# Altium schematic symbol library ZYF_IC.SchLib: 43 symbols
Pins are listed as number, name and electrical type; pins without a type are passive.

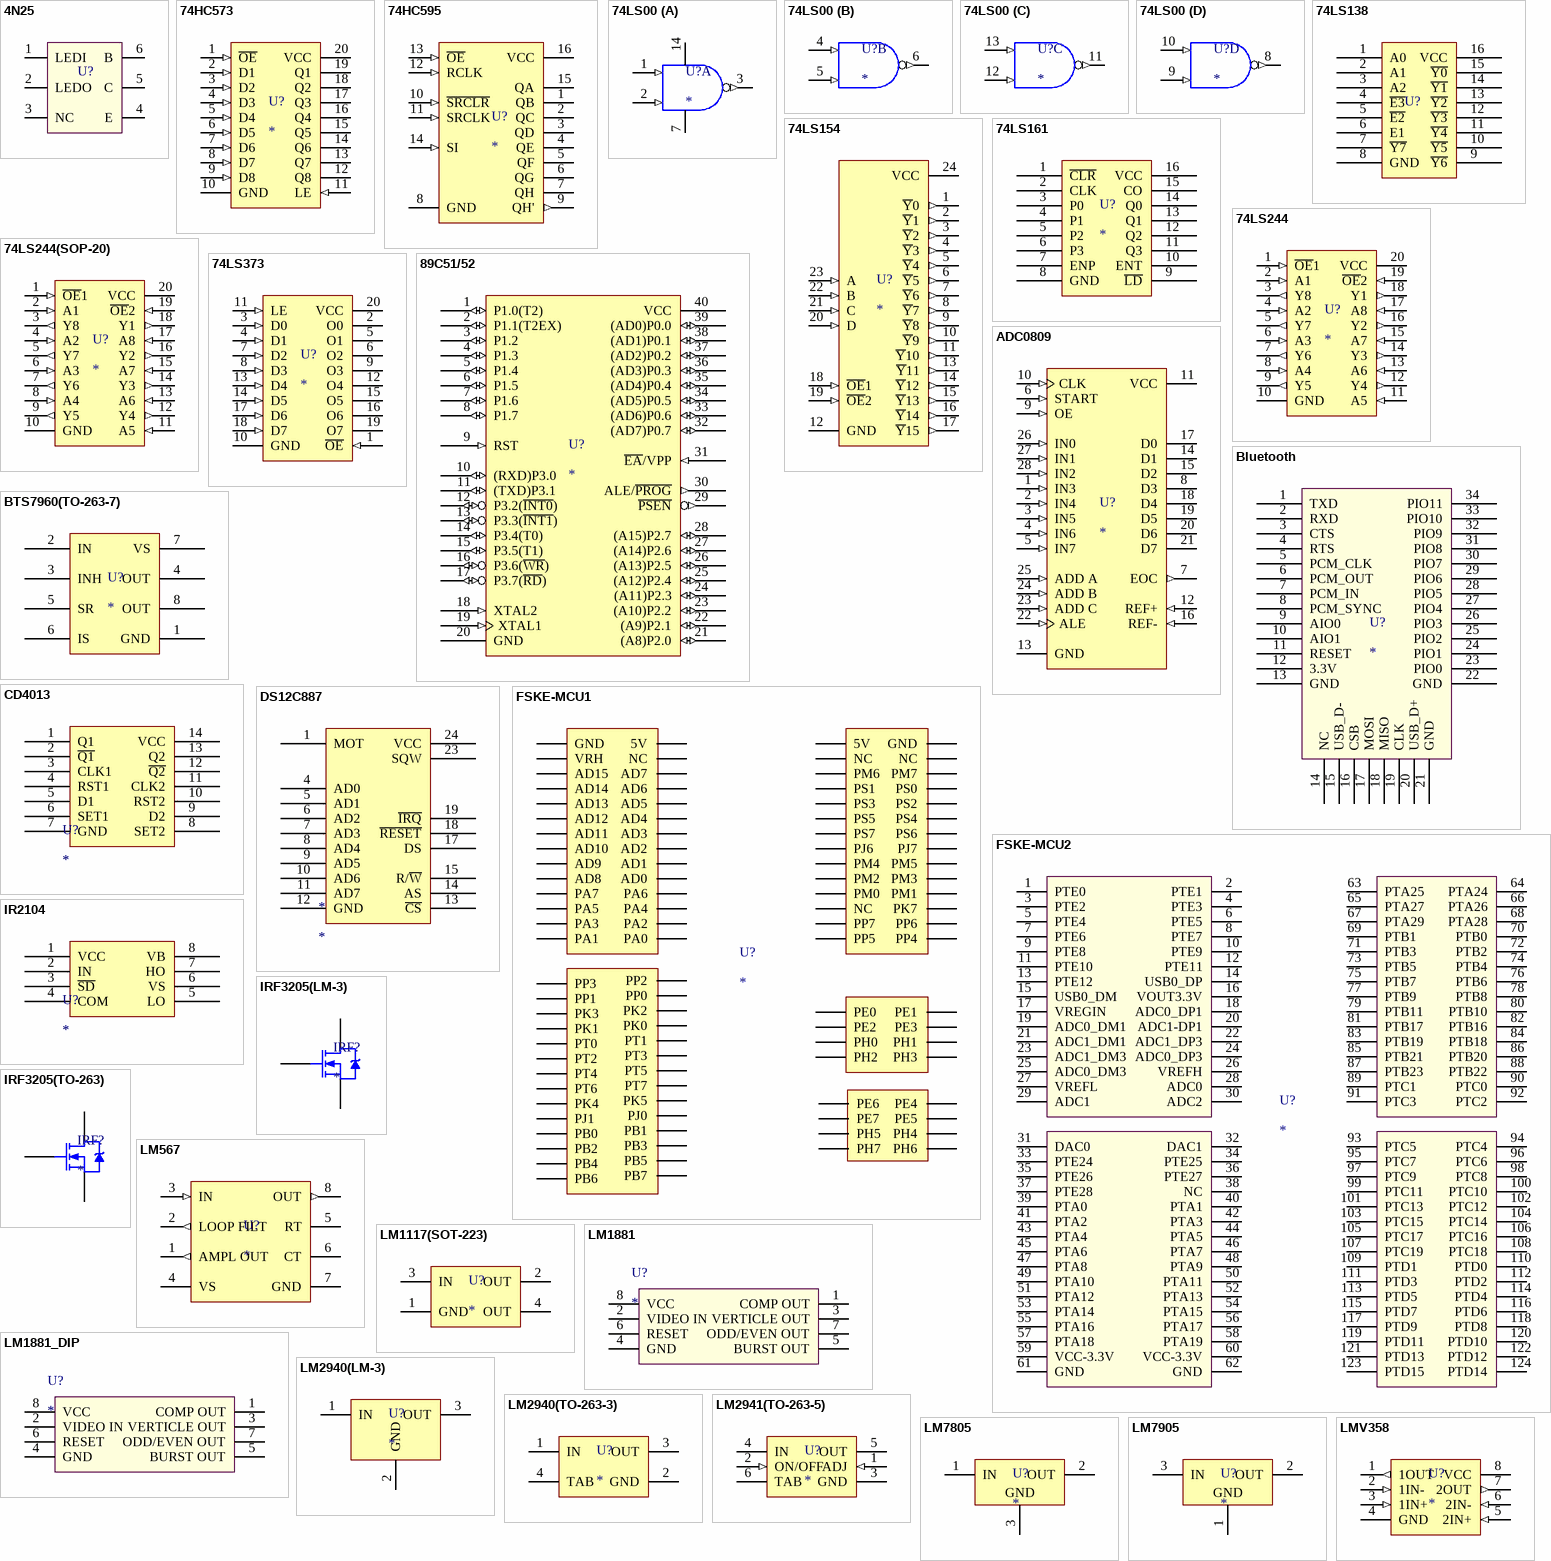
[diagram p0: symbols 4N25 to LMV358]

## 4N25
designator U?  (value not drawn)
footprint DIP-6
pins: 1 LEDI, 2 LEDO, 3 NC, 4 E, 5 C, 6 B

## 74HC573
designator U?
footprint DIP-20
pins: 1 ~{OE} (in), 2 D1 (in), 3 D2 (in), 4 D3 (in), 5 D4 (in), 6 D5 (in), 7 D6 (in), 8 D7 (in), 9 D8 (in), 10 GND (power), 11 LE (in), 12 Q8 (hiz), 13 Q7 (hiz), 14 Q6 (hiz), 15 Q5 (hiz), 16 Q4 (hiz), 17 Q3 (hiz), 18 Q2 (hiz), 19 Q1 (hiz), 20 VCC (power)

## 74HC595
designator U?
footprint DIP-16
pins: 1 QB (hiz), 2 QC (hiz), 3 QD (hiz), 4 QE (hiz), 5 QF (hiz), 6 QG (hiz), 7 QH (hiz), 8 GND (power), 9 QH' (out), 10 ~{SRCLR} (in), 11 SRCLK (in), 12 RCLK (in), 13 ~{OE} (in), 14 SI (in), 15 QA (hiz), 16 VCC (power)

## 74LS00
designator U?
footprint DIP-14
part A pins: 1 A (in), 2 B (in), 3 ~{O} (out), 7, 14
part B pins: 4 A (in), 5 B (in), 6 ~{O} (out)
part C pins: 11 ~{O} (out), 12 B (in), 13 A (in)
part D pins: 8 ~{O} (out), 9 B (in), 10 A (in)

## 74LS138
designator U?  (value not drawn)
footprint DIP-16
pins: 1 A0, 2 A1, 3 A2, 4 ~{E3}, 5 ~{E2}, 6 E1, 7 ~{Y7}, 8 GND, 9 ~{Y6}, 10 ~{Y5}, 11 ~{Y4}, 12 ~{Y3}, 13 ~{Y2}, 14 ~{Y1}, 15 ~{Y0}, 16 VCC

## 74LS154
designator U?
footprint DIP-24
pins: 1 ~{Y}0 (out), 2 ~{Y}1 (out), 3 ~{Y}2 (out), 4 ~{Y}3 (out), 5 ~{Y}4 (out), 6 ~{Y}5 (out), 7 ~{Y}6 (out), 8 ~{Y}7 (out), 9 ~{Y}8 (out), 10 ~{Y}9 (out), 11 ~{Y}10 (out), 12 GND (power), 13 ~{Y}11 (out), 14 ~{Y}12 (out), 15 ~{Y}13 (out), 16 ~{Y}14 (out), 17 ~{Y}15 (out), 18 ~{OE}1 (in), 19 ~{OE}2 (in), 20 D (in), 21 C (in), 22 B (in), 23 A (in), 24 VCC (power)

## 74LS161
designator U?
footprint DIP-16
pins: 1 ~{CLR}, 2 CLK, 3 P0, 4 P1, 5 P2, 6 P3, 7 ENP, 8 GND, 9 ~{LD}, 10 ENT, 11 Q3, 12 Q2, 13 Q1, 14 Q0, 15 CO, 16 VCC

## 74LS244
designator U?
footprint DIP-20
pins: 1 ~{OE}1 (in), 2 A1 (in), 3 Y8 (out), 4 A2 (in), 5 Y7 (out), 6 A3 (in), 7 Y6 (out), 8 A4 (in), 9 Y5 (out), 10 GND (power), 11 A5 (in), 12 Y4 (out), 13 A6 (in), 14 Y3 (out), 15 A7 (in), 16 Y2 (out), 17 A8 (in), 18 Y1 (out), 19 ~{OE}2 (in), 20 VCC (power)

## 74LS244(SOP-20)
designator U?
footprint SOP-20
pins: 1 ~{OE}1 (in), 2 A1 (in), 3 Y8 (out), 4 A2 (in), 5 Y7 (out), 6 A3 (in), 7 Y6 (out), 8 A4 (in), 9 Y5 (out), 10 GND (power), 11 A5 (in), 12 Y4 (out), 13 A6 (in), 14 Y3 (out), 15 A7 (in), 16 Y2 (out), 17 A8 (in), 18 Y1 (out), 19 ~{OE}2 (in), 20 VCC (power)

## 74LS373
designator U?
footprint DIP-20
pins: 1 ~{OE} (in), 2 O0 (hiz), 3 D0 (in), 4 D1 (in), 5 O1 (hiz), 6 O2 (hiz), 7 D2 (in), 8 D3 (in), 9 O3 (hiz), 10 GND (power), 11 LE (in), 12 O4 (hiz), 13 D4 (in), 14 D5 (in), 15 O5 (hiz), 16 O6 (hiz), 17 D6 (in), 18 D7 (in), 19 O7 (hiz), 20 VCC (power)

## 89C51/52
designator U?
footprint DIP-40
pins: 1 P1.0(T2) (io), 2 P1.1(T2EX) (io), 3 P1.2 (io), 4 P1.3 (io), 5 P1.4 (io), 6 P1.5 (io), 7 P1.6 (io), 8 P1.7 (io), 9 RST (in), 10 (RXD)P3.0 (io), 11 (TXD)P3.1 (io), 12 P3.2(~{INT0}) (io), 13 P3.3(~{INT1}) (io), 14 P3.4(T0) (io), 15 P3.5(T1) (io), 16 P3.6(~{WR}) (io), 17 P3.7(~{RD}) (io), 18 XTAL2 (in), 19 XTAL1 (in), 20 GND (power), 21 (A8)P2.0 (io), 22 (A9)P2.1 (io), 23 (A10)P2.2 (io), 24 (A11)P2.3 (io), 25 (A12)P2.4 (io), 26 (A13)P2.5 (io), 27 (A14)P2.6 (io), 28 (A15)P2.7 (io), 29 ~{PSEN} (out), 30 ALE/~{PROG} (out), 31 ~{EA}/VPP (in), 32 (AD7)P0.7 (io), 33 (AD6)P0.6 (io), 34 (AD5)P0.5 (io), 35 (AD4)P0.4 (io), 36 (AD3)P0.3 (io), 37 (AD2)P0.2 (io), 38 (AD1)P0.1 (io), 39 (AD0)P0.0 (io), 40 VCC (power)

## ADC0809
designator U?
footprint DIP-28
pins: 1 IN3 (in), 2 IN4 (in), 3 IN5 (in), 4 IN6 (in), 5 IN7 (in), 6 START (in), 7 EOC (out), 8 D3 (hiz), 9 OE (in), 10 CLK (in), 11 VCC (power), 12 REF+ (in), 13 GND (power), 14 D1 (hiz), 15 D2 (hiz), 16 REF- (in), 17 D0 (hiz), 18 D4 (hiz), 19 D5 (hiz), 20 D6 (hiz), 21 D7 (hiz), 22 ALE (in), 23 ADD C (in), 24 ADD B (in), 25 ADD A (in), 26 IN0 (in), 27 IN1 (in), 28 IN2 (in)

## Bluetooth
designator U?
footprint BLUETOOTH
pins: 1 TXD, 2 RXD, 3 CTS, 4 RTS, 5 PCM_CLK, 6 PCM_OUT, 7 PCM_IN, 8 PCM_SYNC, 9 AIO0, 10 AIO1, 11 RESET, 12 3.3V, 13 GND, 14 NC, 15 USB_D-, 16 CSB, 17 MOSI, 18 MISO, 19 CLK, 20 USB_D+, 21 GND, 22 GND, 23 PIO0, 24 PIO1, 25 PIO2, 26 PIO3, 27 PIO4, 28 PIO5, 29 PIO6, 30 PIO7, 31 PIO8, 32 PIO9, 33 PIO10, 34 PIO11

## BTS7960(TO-263-7)
designator U?
footprint TO-263-7
pins: 1 GND, 2 IN, 3 INH, 4 OUT, 5 SR, 6 IS, 7 VS, 8 OUT

## CD4013
designator U?
footprint SOP-14
pins: 1 Q1, 2 ~{Q1}, 3 CLK1, 4 RST1, 5 D1, 6 SET1, 7 GND, 8 SET2, 9 D2, 10 RST2, 11 CLK2, 12 ~{Q2}, 13 Q2, 14 VCC

## DS12C887
designator *
footprint DS12C887
pins: 1 MOT, 4 AD0, 5 AD1, 6 AD2, 7 AD3, 8 AD4, 9 AD5, 10 AD6, 11 AD7, 12 GND, 13 ~{CS}, 14 AS, 15 R/~{W}, 17 DS, 18 ~{RESET}, 19 ~{IRQ}, 23 SQW, 24 VCC

## FSKE-MCU1
designator U?
footprint FSKE-MCU1
pins: 101 PP3, 102 PP2, 103 PP1, 104 PP0, 105 PK3, 106 PK2, 107 PK1, 108 PK0, 109 PT0, 110 PT1, 111 PT2, 112 PT3, 113 PT4, 114 PT5, 115 PT6, 116 PT7, 117 PK4, 118 PK5, 119 PJ1, 120 PJ0, 121 PB0, 122 PB1, 123 PB2, 124 PB3, 125 PB4, 126 PB5, 127 PB6, 128 PB7, 201 5V, 202 GND, 203 NC, 204 NC, 205 PM6, 206 PM7, 207 PS1, 208 PS0, 209 PS3, 210 PS2, 211 PS5, 212 PS4, 213 PS7, 214 PS6, 215 PJ6, 216 PJ7, 217 PM4, 218 PM5, 219 PM2, 220 PM3, 221 PM0, 222 PM1, 223 NC, 224 PK7, 225 PP7, 226 PP6, 227 PP5, 228 PP4, 301 PA0, 302 PA1, 303 PA2, 304 PA3, 305 PA4, 306 PA5, 307 PA6, 308 PA7, 309 AD0, 310 AD8, 311 AD1, 312 AD9, 313 AD2, 314 AD10, 315 AD3, 316 AD11, 317 AD4, 318 AD12, 319 AD5, 320 AD13, 321 AD6, 322 AD14, 323 AD7, 324 AD15, 325 NC, 326 VRH, 327 5V, 328 GND "1", 401 PH6, 402 PH7, 403 PH4, 404 PH5, 405 PE5, 406 PE7, 407 PE4, 408 PE6, 501 PH3, 502 PH2, 503 PH1, 504 PH0, 505 PE3, 506 PE2, 507 PE1, 508 PE0

## FSKE-MCU2
designator U?
footprint FSKE-MCU2
pins: 1 PTE0, 2 PTE1, 3 PTE2, 4 PTE3, 5 PTE4, 6 PTE5, 7 PTE6, 8 PTE7, 9 PTE8, 10 PTE9, 11 PTE10, 12 PTE11, 13 PTE12, 14 USB0_DP, 15 USB0_DM, 16 VOUT3.3V, 17 VREGIN, 18 ADC0_DP1, 19 ADC0_DM1, 20 ADC1-DP1, 21 ADC1_DM1, 22 ADC1_DP3, 23 ADC1_DM3, 24 ADC0_DP3, 25 ADC0_DM3, 26 VREFH, 27 VREFL, 28 ADC0, 29 ADC1, 30 ADC2, 31 DAC0, 32 DAC1, 33 PTE24, 34 PTE25, 35 PTE26, 36 PTE27, 37 PTE28, 38 NC, 39 PTA0, 40 PTA1, 41 PTA2, 42 PTA3, 43 PTA4, 44 PTA5, 45 PTA6, 46 PTA7, 47 PTA8, 48 PTA9, 49 PTA10, 50 PTA11, 51 PTA12, 52 PTA13, 53 PTA14, 54 PTA15, 55 PTA16, 56 PTA17, 57 PTA18, 58 PTA19, 59 VCC-3.3V, 60 VCC-3.3V, 61 GND, 62 GND, 63 PTA25, 64 PTA24, 65 PTA27, 66 PTA26, 67 PTA29, 68 PTA28, 69 PTB1, 70 PTB0, 71 PTB3, 72 PTB2, 73 PTB5, 74 PTB4, 75 PTB7, 76 PTB6, 77 PTB9, 78 PTB8, 79 PTB11, 80 PTB10, 81 PTB17, 82 PTB16, 83 PTB19, 84 PTB18, 85 PTB21, 86 PTB20, 87 PTB23, 88 PTB22, 89 PTC1, 90 PTC0, 91 PTC3, 92 PTC2, 93 PTC5, 94 PTC4, 95 PTC7, 96 PTC6, 97 PTC9, 98 PTC8, 99 PTC11, 100 PTC10, 101 PTC13, 102 PTC12, 103 PTC15, 104 PTC14, 105 PTC17, 106 PTC16, 107 PTC19, 108 PTC18, 109 PTD1, 110 PTD0, 111 PTD3, 112 PTD2, 113 PTD5, 114 PTD4, 115 PTD7, 116 PTD6, 117 PTD9, 118 PTD8, 119 PTD11, 120 PTD10, 121 PTD13, 122 PTD12, 123 PTD15, 124 PTD14

## IR2104
designator U?
footprint SOP-8
pins: 1 VCC, 2 IN, 3 ~{SD}, 4 COM, 5 LO, 6 VS, 7 HO, 8 VB

## IRF3205(LM-3)
designator IRF?
footprint LM-3
pins: 1 G, 2 D, 3 S

## IRF3205(TO-263)
designator IRF?
footprint TO-263
pins: 1 G, 2 D, 3 S

## LM567
designator U?
footprint DIP-8
pins: 1 AMPL OUT (out), 2 LOOP FILT (out), 3 IN (in), 4 VS (power), 5 RT, 6 CT, 7 GND (power), 8 OUT (out)

## LM1117(SOT-223)
designator U?
footprint SOT-223
pins: 1 GND (power), 2 OUT (power), 3 IN (power), 4 OUT (power)

## LM1881
designator U?
footprint SOP-8
pins: 1 COMP OUT, 2 VIDEO IN, 3 VERTICLE OUT, 4 GND, 5 BURST OUT, 6 RESET, 7 ODD/EVEN OUT, 8 VCC

## LM1881_DIP
designator U?
footprint DIP-8
pins: 1 COMP OUT, 2 VIDEO IN, 3 VERTICLE OUT, 4 GND, 5 BURST OUT, 6 RESET, 7 ODD/EVEN OUT, 8 VCC

## LM2940(LM-3)
designator U?
footprint LM-3
pins: 1 IN (power), 2 GND (power), 3 OUT (power)

## LM2940(TO-263-3)
designator U?
footprint TO-263-3
pins: 1 IN (power), 2 GND (power), 3 OUT (power), 4 TAB (power)

## LM2941(TO-263-5)
designator U?
footprint TO-263-5
pins: 1 ADJ (in), 2 ON/OFF (in), 3 GND (power), 4 IN (power), 5 OUT (power), 6 TAB (power)

## LM7805
designator U?
footprint LM-3
pins: 1 IN (power), 2 OUT (power), 3 GND (power)

## LM7905
designator U?
footprint LM-3
pins: 1 GND (power), 2 OUT (power), 3 IN (power)

## LMV358
designator U?
footprint SOP-8
pins: 1 1OUT (out), 2 1IN- (in), 3 1IN+ (in), 4 GND (power), 5 2IN+ (in), 6 2IN- (in), 7 2OUT (out), 8 VCC (power)

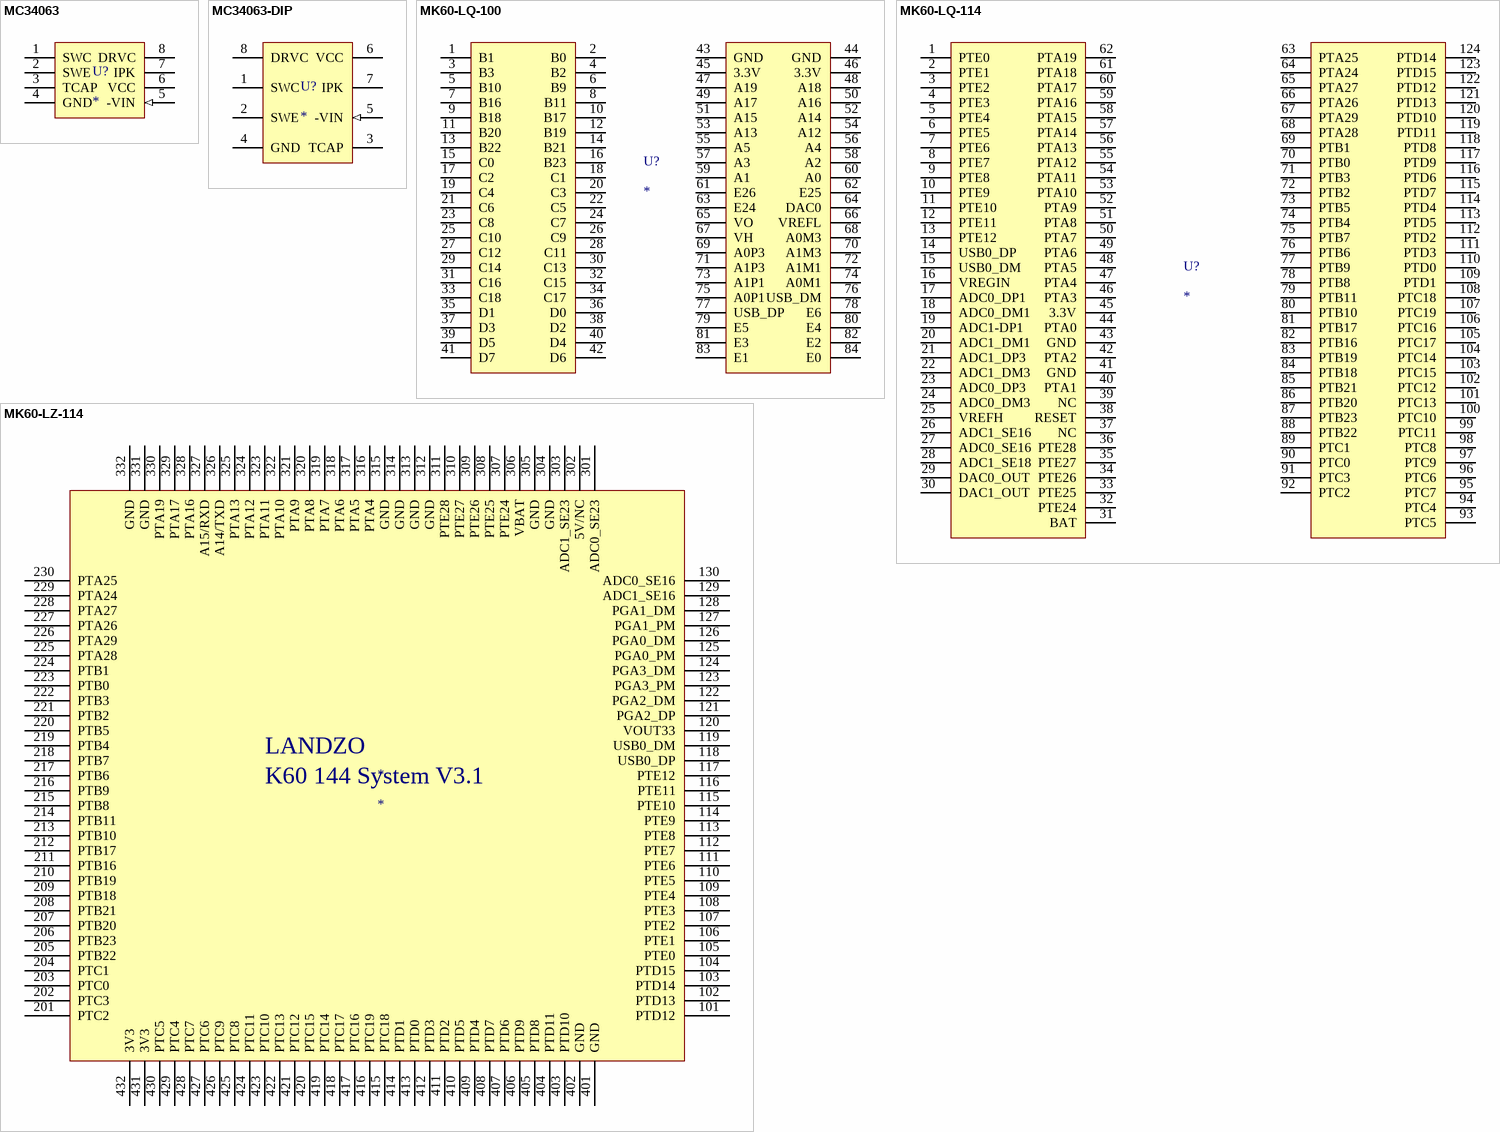
[diagram p1: symbols MC34063 to MK60-LZ-114]

## MC34063
designator U?
footprint SOP-8
pins: 1 SWC (oc), 2 SWE, 3 TCAP, 4 GND (power), 5 -VIN (in), 6 VCC (power), 7 IPK, 8 DRVC (oc)

## MC34063-DIP
designator U?
footprint DIP-8
pins: 1 SWC (oc), 2 SWE (oe), 3 TCAP, 4 GND (power), 5 -VIN (in), 6 VCC (power), 7 IPK, 8 DRVC (oc)

## MK60-LQ-100
designator U?
footprint MK60-LQ-100
pins: 1 B1, 2 B0, 3 B3, 4 B2, 5 B10, 6 B9, 7 B16, 8 B11, 9 B18, 10 B17, 11 B20, 12 B19, 13 B22, 14 B21, 15 C0, 16 B23, 17 C2, 18 C1, 19 C4, 20 C3, 21 C6, 22 C5, 23 C8, 24 C7, 25 C10, 26 C9, 27 C12, 28 C11, 29 C14, 30 C13, 31 C16, 32 C15, 33 C18, 34 C17, 35 D1, 36 D0, 37 D3, 38 D2, 39 D5, 40 D4, 41 D7, 42 D6, 43 GND, 44 GND, 45 3.3V, 46 3.3V, 47 A19, 48 A18, 49 A17, 50 A16, 51 A15, 52 A14, 53 A13, 54 A12, 55 A5, 56 A4, 57 A3, 58 A2, 59 A1, 60 A0, 61 E26, 62 E25, 63 E24, 64 DAC0, 65 VO, 66 VREFL, 67 VH, 68 A0M3, 69 A0P3, 70 A1M3, 71 A1P3, 72 A1M1, 73 A1P1, 74 A0M1, 75 A0P1, 76 USB_DM, 77 USB_DP, 78 E6, 79 E5, 80 E4, 81 E3, 82 E2, 83 E1, 84 E0

## MK60-LQ-114
designator U?
footprint MK60-LQ-114
pins: 1 PTE0, 2 PTE1, 3 PTE2, 4 PTE3, 5 PTE4, 6 PTE5, 7 PTE6, 8 PTE7, 9 PTE8, 10 PTE9, 11 PTE10, 12 PTE11, 13 PTE12, 14 USB0_DP, 15 USB0_DM, 16 VREGIN, 17 ADC0_DP1, 18 ADC0_DM1, 19 ADC1-DP1, 20 ADC1_DM1, 21 ADC1_DP3, 22 ADC1_DM3, 23 ADC0_DP3, 24 ADC0_DM3, 25 VREFH, 26 ADC1_SE16, 27 ADC0_SE16, 28 ADC1_SE18, 29 DAC0_OUT, 30 DAC1_OUT, 31 BAT, 32 PTE24, 33 PTE25, 34 PTE26, 35 PTE27, 36 PTE28, 37 NC, 38 RESET, 39 NC, 40 PTA1, 41 GND, 42 PTA2, 43 GND, 44 PTA0, 45 3.3V, 46 PTA3, 47 PTA4, 48 PTA5, 49 PTA6, 50 PTA7, 51 PTA8, 52 PTA9, 53 PTA10, 54 PTA11, 55 PTA12, 56 PTA13, 57 PTA14, 58 PTA15, 59 PTA16, 60 PTA17, 61 PTA18, 62 PTA19, 63 PTA25, 64 PTA24, 65 PTA27, 66 PTA26, 67 PTA29, 68 PTA28, 69 PTB1, 70 PTB0, 71 PTB3, 72 PTB2, 73 PTB5, 74 PTB4, 75 PTB7, 76 PTB6, 77 PTB9, 78 PTB8, 79 PTB11, 80 PTB10, 81 PTB17, 82 PTB16, 83 PTB19, 84 PTB18, 85 PTB21, 86 PTB20, 87 PTB23, 88 PTB22, 89 PTC1, 90 PTC0, 91 PTC3, 92 PTC2, 93 PTC5, 94 PTC4, 95 PTC7, 96 PTC6, 97 PTC9, 98 PTC8, 99 PTC11, 100 PTC10, 101 PTC13, 102 PTC12, 103 PTC15, 104 PTC14, 105 PTC17, 106 PTC16, 107 PTC19, 108 PTC18, 109 PTD1, 110 PTD0, 111 PTD3, 112 PTD2, 113 PTD5, 114 PTD4, 115 PTD7, 116 PTD6, 117 PTD9, 118 PTD8, 119 PTD11, 120 PTD10, 121 PTD13, 122 PTD12, 123 PTD15, 124 PTD14

## MK60-LZ-114
designator *
footprint MK60-LZ-114
pins: 101 PTD12, 102 PTD13, 103 PTD14, 104 PTD15, 105 PTE0, 106 PTE1, 107 PTE2, 108 PTE3, 109 PTE4, 110 PTE5, 111 PTE6, 112 PTE7, 113 PTE8, 114 PTE9, 115 PTE10, 116 PTE11, 117 PTE12, 118 USB0_DP, 119 USB0_DM, 120 VOUT33, 121 PGA2_DP, 122 PGA2_DM, 123 PGA3_PM, 124 PGA3_DM, 125 PGA0_PM, 126 PGA0_DM, 127 PGA1_PM, 128 PGA1_DM, 129 ADC1_SE16, 130 ADC0_SE16, 201 PTC2, 202 PTC3, 203 PTC0, 204 PTC1, 205 PTB22, 206 PTB23, 207 PTB20, 208 PTB21, 209 PTB18, 210 PTB19, 211 PTB16, 212 PTB17, 213 PTB10, 214 PTB11, 215 PTB8, 216 PTB9, 217 PTB6, 218 PTB7, 219 PTB4, 220 PTB5, 221 PTB2, 222 PTB3, 223 PTB0, 224 PTB1, 225 PTA28, 226 PTA29, 227 PTA26, 228 PTA27, 229 PTA24, 230 PTA25, 301 ADC0_SE23, 302 5V/NC, 303 ADC1_SE23, 304 GND, 305 GND, 306 VBAT, 307 PTE24, 308 PTE25, 309 PTE26, 310 PTE27, 311 PTE28, 312 GND, 313 GND, 314 GND, 315 GND, 316 PTA4, 317 PTA5, 318 PTA6, 319 PTA7, 320 PTA8, 321 PTA9, 322 PTA10, 323 PTA11, 324 PTA12, 325 PTA13, 326 A14/TXD, 327 A15/RXD, 328 PTA16, 329 PTA17, 330 PTA19, 331 GND, 332 GND, 401 GND, 402 GND, 403 PTD10, 404 PTD11, 405 PTD8, 406 PTD9, 407 PTD6, 408 PTD7, 409 PTD4, 410 PTD5, 411 PTD2, 412 PTD3, 413 PTD0, 414 PTD1, 415 PTC18, 416 PTC19, 417 PTC16, 418 PTC17, 419 PTC14, 420 PTC15, 421 PTC12, 422 PTC13, 423 PTC10, 424 PTC11, 425 PTC8, 426 PTC9, 427 PTC6, 428 PTC7, 429 PTC4, 430 PTC5, 431 3V3, 432 3V3
text: LANDZO; K60 144 System V3.1

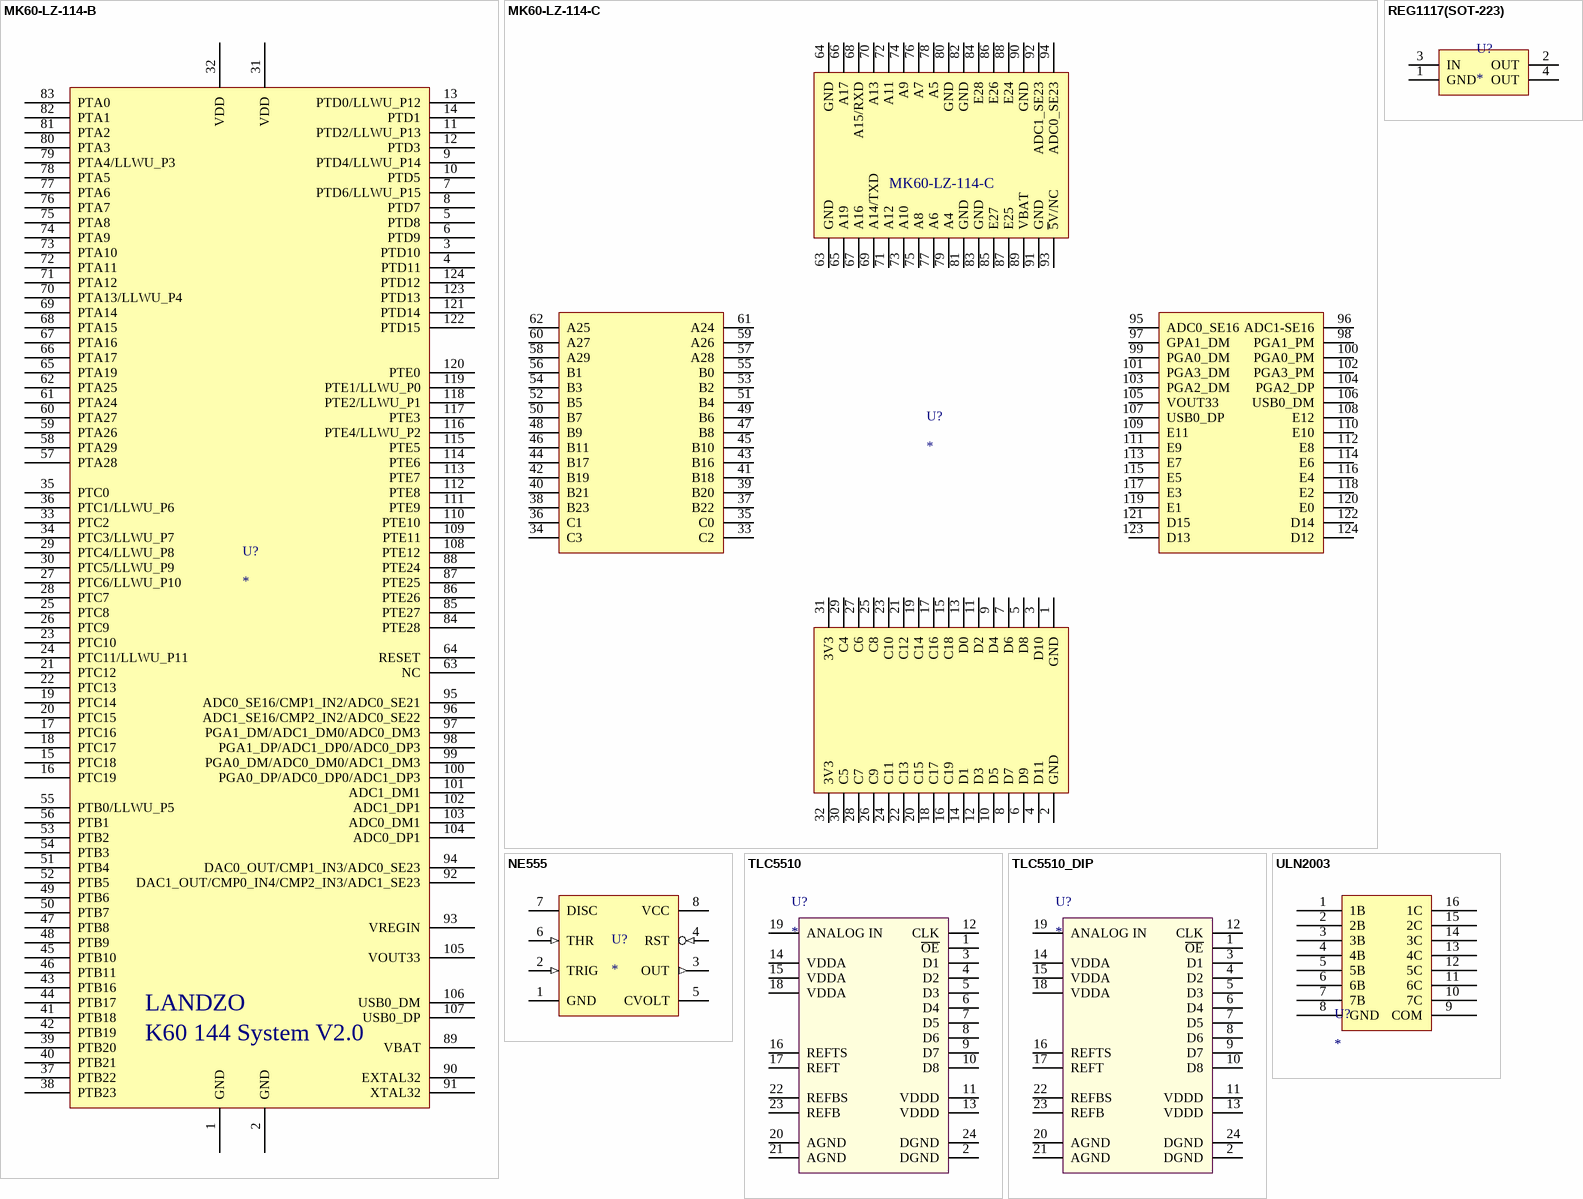
[diagram p2: symbols MK60-LZ-114-B to ULN2003]

## MK60-LZ-114-B
designator U?
footprint MK60-LZ-114-B
pins: 1 GND, 2 GND, 3 PTD10, 4 PTD11, 5 PTD8, 6 PTD9, 7 PTD6/LLWU_P15, 8 PTD7, 9 PTD4/LLWU_P14, 10 PTD5, 11 PTD2/LLWU_P13, 12 PTD3, 13 PTD0/LLWU_P12, 14 PTD1, 15 PTC18, 16 PTC19, 17 PTC16, 18 PTC17, 19 PTC14, 20 PTC15, 21 PTC12, 22 PTC13, 23 PTC10, 24 PTC11/LLWU_P11, 25 PTC8, 26 PTC9, 27 PTC6/LLWU_P10, 28 PTC7, 29 PTC4/LLWU_P8, 30 PTC5/LLWU_P9, 31 VDD, 32 VDD, 33 PTC2, 34 PTC3/LLWU_P7, 35 PTC0, 36 PTC1/LLWU_P6, 37 PTB22, 38 PTB23, 39 PTB20, 40 PTB21, 41 PTB18, 42 PTB19, 43 PTB16, 44 PTB17, 45 PTB10, 46 PTB11, 47 PTB8, 48 PTB9, 49 PTB6, 50 PTB7, 51 PTB4, 52 PTB5, 53 PTB2, 54 PTB3, 55 PTB0/LLWU_P5, 56 PTB1, 57 PTA28, 58 PTA29, 59 PTA26, 60 PTA27, 61 PTA24, 62 PTA25, 63 NC, 64 RESET, 65 PTA19, 66 PTA17, 67 PTA16, 68 PTA15, 69 PTA14, 70 PTA13/LLWU_P4, 71 PTA12, 72 PTA11, 73 PTA10, 74 PTA9, 75 PTA8, 76 PTA7, 77 PTA6, 78 PTA5, 79 PTA4/LLWU_P3, 80 PTA3, 81 PTA2, 82 PTA1, 83 PTA0, 84 PTE28, 85 PTE27, 86 PTE26, 87 PTE25, 88 PTE24, 89 VBAT, 90 EXTAL32, 91 XTAL32, 92 DAC1_OUT/CMP0_IN4/CMP2_IN3/ADC1_SE23, 93 VREGIN, 94 DAC0_OUT/CMP1_IN3/ADC0_SE23, 95 ADC0_SE16/CMP1_IN2/ADC0_SE21, 96 ADC1_SE16/CMP2_IN2/ADC0_SE22, 97 PGA1_DM/ADC1_DM0/ADC0_DM3, 98 PGA1_DP/ADC1_DP0/ADC0_DP3, 99 PGA0_DM/ADC0_DM0/ADC1_DM3, 100 PGA0_DP/ADC0_DP0/ADC1_DP3, 101 ADC1_DM1, 102 ADC1_DP1, 103 ADC0_DM1, 104 ADC0_DP1, 105 VOUT33, 106 USB0_DM, 107 USB0_DP, 108 PTE12, 109 PTE11, 110 PTE10, 111 PTE9, 112 PTE8, 113 PTE7, 114 PTE6, 115 PTE5, 116 PTE4/LLWU_P2, 117 PTE3, 118 PTE2/LLWU_P1, 119 PTE1/LLWU_P0, 120 PTE0, 121 PTD14, 122 PTD15, 123 PTD13, 124 PTD12
text: LANDZO; K60 144 System V2.0

## MK60-LZ-114-C
designator U?
footprint MK60-LZ-114-B
pins: 1 GND, 2 GND, 3 D10, 4 D11, 5 D8, 6 D9, 7 D6, 8 D7, 9 D4, 10 D5, 11 D2, 12 D3, 13 D0, 14 D1, 15 C18, 16 C19, 17 C16, 18 C17, 19 C14, 20 C15, 21 C12, 22 C13, 23 C10, 24 C11, 25 C8, 26 C9, 27 C6, 28 C7, 29 C4, 30 C5, 31 3V3, 32 3V3, 33 C2, 34 C3, 35 C0, 36 C1, 37 B22, 38 B23, 39 B20, 40 B21, 41 B18, 42 B19, 43 B16, 44 B17, 45 B10, 46 B11, 47 B8, 48 B9, 49 B6, 50 B7, 51 B4, 52 B5, 53 B2, 54 B3, 55 B0, 56 B1, 57 A28, 58 A29, 59 A26, 60 A27, 61 A24, 62 A25, 63 GND, 64 GND, 65 A19, 66 A17, 67 A16, 68 A15/RXD, 69 A14/TXD, 70 A13, 71 A12, 72 A11, 73 A10, 74 A9, 75 A8, 76 A7, 77 A6, 78 A5, 79 A4, 80 GND, 81 GND, 82 GND, 83 GND, 84 E28, 85 E27, 86 E26, 87 E25, 88 E24, 89 VBAT, 90 GND, 91 GND, 92 ADC1_SE23, 93 ~{5}V/NC, 94 ADC0_SE23, 95 ADC0_SE16, 96 ADC1-SE16, 97 GPA1_DM, 98 PGA1_PM, 99 PGA0_DM, 100 PGA0_PM, 101 PGA3_DM, 102 PGA3_PM, 103 PGA2_DM, 104 PGA2_DP, 105 VOUT33, 106 USB0_DM, 107 USB0_DP, 108 E12, 109 E11, 110 E10, 111 E9, 112 E8, 113 E7, 114 E6, 115 E5, 116 E4, 117 E3, 118 E2, 119 E1, 120 E0, 121 D15, 122 D14, 123 D13, 124 D12

## NE555
designator U?
footprint DIP-8
pins: 1 GND (power), 2 TRIG (in), 3 OUT (out), 4 RST (in), 5 CVOLT, 6 THR (in), 7 DISC (oc), 8 VCC (power)

## REG1117(SOT-223)
designator U?
footprint SOT-223
pins: 1 GND (power), 2 OUT (power), 3 IN (power), 4 OUT (power)

## TLC5510
designator U?
footprint TLC5510
pins: 1 ~{OE}, 2 DGND, 3 D1, 4 D2, 5 D3, 6 D4, 7 D5, 8 D6, 9 D7, 10 D8, 11 VDDD, 12 CLK, 13 VDDD, 14 VDDA, 15 VDDA, 16 REFTS, 17 REFT, 18 VDDA, 19 ANALOG IN, 20 AGND, 21 AGND, 22 REFBS, 23 REFB, 24 DGND

## TLC5510_DIP
designator U?
footprint TLC5510-DIP
pins: 1 ~{OE}, 2 DGND, 3 D1, 4 D2, 5 D3, 6 D4, 7 D5, 8 D6, 9 D7, 10 D8, 11 VDDD, 12 CLK, 13 VDDD, 14 VDDA, 15 VDDA, 16 REFTS, 17 REFT, 18 VDDA, 19 ANALOG IN, 20 AGND, 21 AGND, 22 REFBS, 23 REFB, 24 DGND

## ULN2003
designator U?
footprint DIP-16
pins: 1 1B, 2 2B, 3 3B, 4 4B, 5 5B, 6 6B, 7 7B, 8 GND, 9 COM, 10 7C, 11 6C, 12 5C, 13 4C, 14 3C, 15 2C, 16 1C